# EAGLE library part BUCK_CONVERTER (library Heep)
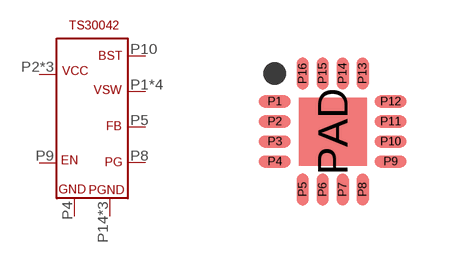
[diagram p6: symbol with the pads of QFN-16; footprint QFN-16]

Designator prefix -

## BUCK_CONVERTER  [QFN-16]
P1  VSW
P2  VCC
P3  VCC
P4  GND
P5  FB
P8  PG
P9  EN
P10  BST
P11  VCC
P12  VSW
P13  VSW
P14  PGND
P15  PGND
P16  VSW
PAD  PGND

## Footprint QFN-16 (pad centres in mm)
smd 0.8 x 0.3: P1 -1.45,0.75; P2 -1.45,0.25; P3 -1.45,-0.25; P4 -1.45,-0.75; P9 1.45,-0.75; P10 1.45,-0.25; P11 1.45,0.25; P12 1.45,0.75
smd 0.3 x 0.8: P5 -0.75,-1.45; P6 -0.25,-1.45; P7 0.25,-1.45; P8 0.75,-1.45; P13 0.75,1.45; P14 0.25,1.45; P15 -0.25,1.45; P16 -0.75,1.45
smd 1.7 x 1.7: PAD 0,0